# EAGLE library part BLOCK_4VA (library Trafo)
Block-Trafo 2*15V, 4VA
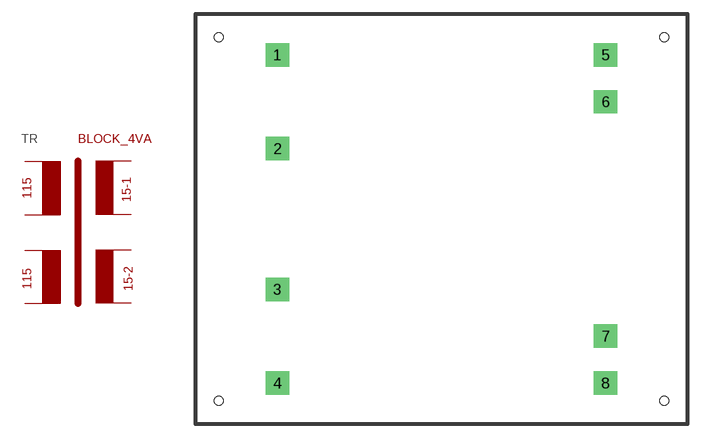
[diagram p10: symbol with the pads of BLOCK_4VA; footprint BLOCK_4VA]

Designator prefix TR

## BLOCK_4VA  [BLOCK_4VA]
1  P1A
2  P1B
3  P2A
4  P2B
5  S1A
6  S1B
7  S2A
8  S2B

## Footprint BLOCK_4VA (pad centres in mm)
Block-Trafo 2* 15V, 4VA
drill 1 pad 2.54 square: 1 -13.97,15.24; 2 -13.97,5.08; 3 -13.97,-10.16; 4 -13.97,-20.32; 5 21.59,15.24; 6 21.59,10.16; 7 21.59,-15.24; 8 21.59,-20.32
hole 1 at -20.32,17.145
hole 1 at -20.32,-22.225
hole 1 at 27.94,-22.225
hole 1 at 27.94,17.145